# EAGLE library part FT8U245AM (library ftdi)
USB FIFO 1st Generation USB FIFO (USB <-> Parallel)
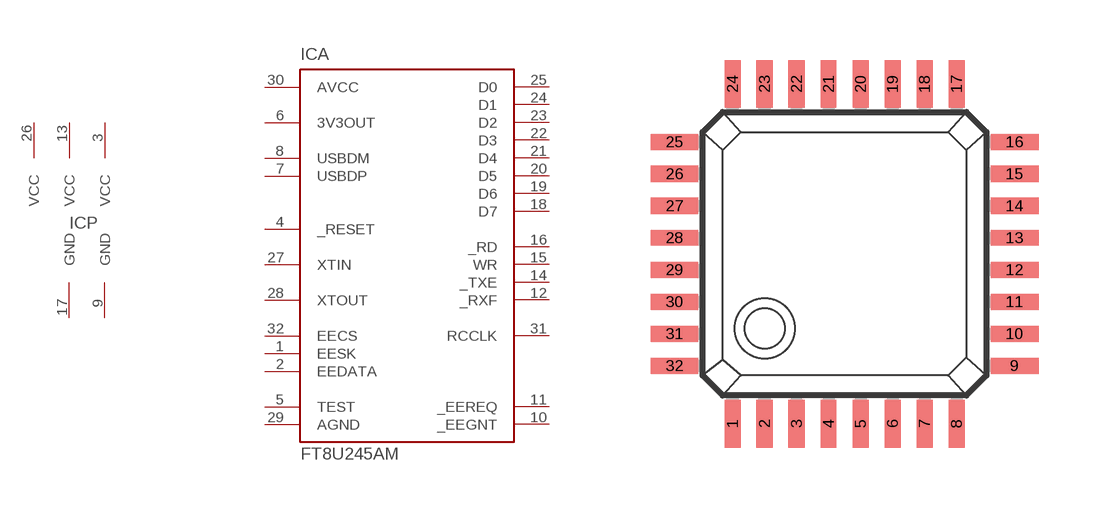
[diagram p3: symbol with the pads of LQFP-32; footprint LQFP-32]

Designator prefix IC; gates A=FT8U245AM P=3VCC2GND

## FT8U245AM  [LQFP-32]
1  A:EESK
2  A:EEDATA
3  P:VCC  pwr
4  A:_RESET  in
5  A:TEST  in
6  A:3V3OUT  out
7  A:USBDP
8  A:USBDM
9  P:GND  pwr
10  A:_EEGNT  out
11  A:_EEREQ  in
12  A:_RXF  out
13  P:VCC  pwr
14  A:_TXE  out
15  A:WR  in
16  A:_RD  in
17  P:GND  pwr
18  A:D7
19  A:D6
20  A:D5
21  A:D4
22  A:D3
23  A:D2
24  A:D1
25  A:D0
26  P:VCC  pwr
27  A:XTIN  in
28  A:XTOUT  out
29  A:AGND  pwr
30  A:AVCC  pwr
31  A:RCCLK
32  A:EECS

## Footprint LQFP-32 (pad centres in mm)
Quad Flat Package 32 LD LQFP Source: ds232b12.pdf http://www.ftdichip.com
smd 0.4 x 1.2: 1 -2.8,-4.25; 2 -2,-4.25; 3 -1.2,-4.25; 4 -0.4,-4.25; 5 0.4,-4.25; 6 1.2,-4.25; 7 2,-4.25; 8 2.8,-4.25; 17 2.8,4.25; 18 2,4.25; 19 1.2,4.25; 20 0.4,4.25; 21 -0.4,4.25; 22 -1.2,4.25; 23 -2,4.25; 24 -2.8,4.25
smd 1.2 x 0.4: 9 4.25,-2.8; 10 4.25,-2; 11 4.25,-1.2; 12 4.25,-0.4; 13 4.25,0.4; 14 4.25,1.2; 15 4.25,2; 16 4.25,2.8; 25 -4.25,2.8; 26 -4.25,2; 27 -4.25,1.2; 28 -4.25,0.4; 29 -4.25,-0.4; 30 -4.25,-1.2; 31 -4.25,-2; 32 -4.25,-2.8